# EAGLE library part ERF8-035-XX.X-X-DV (library con-samtec-er8)
ERF8 Series - Female
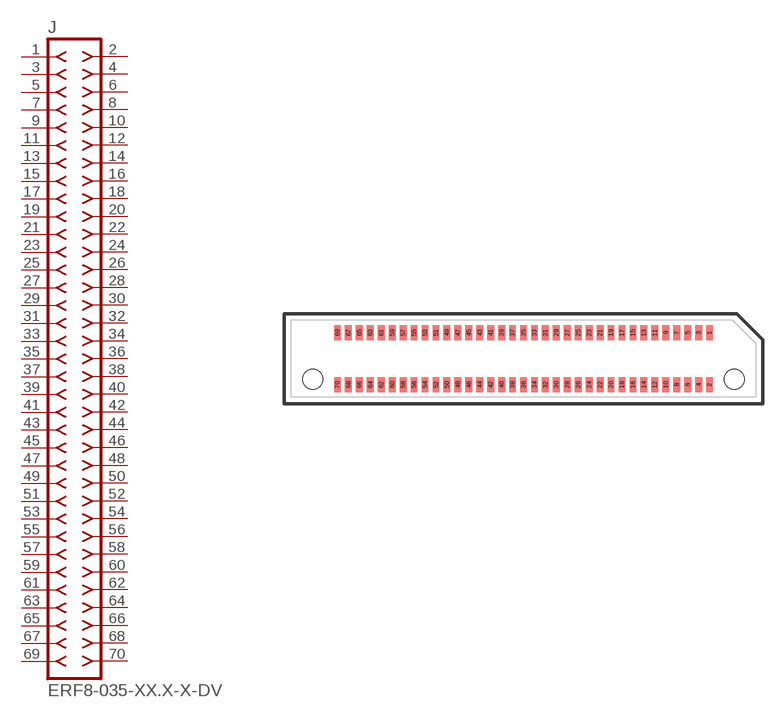
[diagram p14: symbol with the pads of ERF8-035-XX.X-X-DV; footprint ERF8-035-XX.X-X-DV]

Designator prefix J

## ERF8-035-XX.X-X-DV  [ERF8-035-XX.X-X-DV]
1  1  pas
2  2  pas
3  3  pas
4  4  pas
5  5  pas
6  6  pas
7  7  pas
8  8  pas
9  9  pas
10  10  pas
11  11  pas
12  12  pas
13  13  pas
14  14  pas
15  15  pas
16  16  pas
17  17  pas
18  18  pas
19  19  pas
20  20  pas
21  21  pas
22  22  pas
23  23  pas
24  24  pas
25  25  pas
26  26  pas
27  27  pas
28  28  pas
29  29  pas
30  30  pas
31  31  pas
32  32  pas
33  33  pas
34  34  pas
35  35  pas
36  36  pas
37  37  pas
38  38  pas
39  39  pas
40  40  pas
41  41  pas
42  42  pas
43  43  pas
44  44  pas
45  45  pas
46  46  pas
47  47  pas
48  48  pas
49  49  pas
50  50  pas
51  51  pas
52  52  pas
53  53  pas
54  54  pas
55  55  pas
56  56  pas
57  57  pas
58  58  pas
59  59  pas
60  60  pas
61  61  pas
62  62  pas
63  63  pas
64  64  pas
65  65  pas
66  66  pas
67  67  pas
68  68  pas
69  69  pas
70  70  pas

## Footprint ERF8-035-XX.X-X-DV (pad centres in mm)
0.8mm Edge Rate Terminal Assembly FEMALE, Double Vertical Row, 35 Position
smd 0.5 x 1.1: 1 13.6,1.9; 2 13.6,-1.9; 3 12.8,1.9; 4 12.8,-1.9; 5 12,1.9; 6 12,-1.9; 7 11.2,1.9; 8 11.2,-1.9; 9 10.4,1.9; 10 10.4,-1.9; 11 9.6,1.9; 12 9.6,-1.9; 13 8.8,1.9; 14 8.8,-1.9; 15 8,1.9; 16 8,-1.9; 17 7.2,1.9; 18 7.2,-1.9; 19 6.4,1.9; 20 6.4,-1.9; 21 5.6,1.9; 22 5.6,-1.9; 23 4.8,1.9; 24 4.8,-1.9; 25 4,1.9; 26 4,-1.9; 27 3.2,1.9; 28 3.2,-1.9; 29 2.4,1.9; 30 2.4,-1.9; 31 1.6,1.9; 32 1.6,-1.9; 33 0.8,1.9; 34 0.8,-1.9; 35 0,1.9; 36 0,-1.9; 37 -0.8,1.9; 38 -0.8,-1.9; 39 -1.6,1.9; 40 -1.6,-1.9; 41 -2.4,1.9; 42 -2.4,-1.9; 43 -3.2,1.9; 44 -3.2,-1.9; 45 -4,1.9; 46 -4,-1.9; 47 -4.8,1.9; 48 -4.8,-1.9; 49 -5.6,1.9; 50 -5.6,-1.9; 51 -6.4,1.9; 52 -6.4,-1.9; 53 -7.2,1.9; 54 -7.2,-1.9; 55 -8,1.9; 56 -8,-1.9; 57 -8.8,1.9; 58 -8.8,-1.9; 59 -9.6,1.9; 60 -9.6,-1.9; 61 -10.4,1.9; 62 -10.4,-1.9; 63 -11.2,1.9; 64 -11.2,-1.9; 65 -12,1.9; 66 -12,-1.9; 67 -12.8,1.9; 68 -12.8,-1.9; 69 -13.6,1.9; 70 -13.6,-1.9
hole 1.45 at 15.4,-1.5
hole 1.45 at -15.4,-1.5